# Altium schematic symbol library bead.SchLib: 6 symbols
Pins are listed as number, name and electrical type; pins without a type are passive.

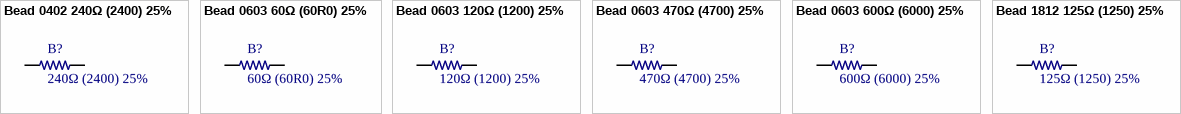
[diagram p0: symbols Bead 0402 240Ω (2400) 25% to Bead 1812 125Ω (1250) 25%]

## Bead 0402 240Ω (2400) 25%
designator B?, comment 240Ω (2400) 25%
贴片磁珠; Package: 0603; Supplier: LC; SuppliersPartNumber: C25803; ComponentLink1Description: 立创商城链接; ComponentLink1URL: https://item.szlcsc.com/266440.html
footprint 0402_L
pins: 1, 2

## Bead 0603 60Ω (60R0) 25%
designator B?, comment 60Ω (60R0) 25%
贴片磁珠; Package: 0603; Supplier: LC; SuppliersPartNumber: C25803; ComponentLink1Description: 立创商城链接; ComponentLink1URL: https://item.szlcsc.com/36300.html
footprint 0603_L
pins: 1, 2

## Bead 0603 120Ω (1200) 25%
designator B?, comment 120Ω (1200) 25%
贴片磁珠; Package: 0603; Supplier: LC; SuppliersPartNumber: C25803; ComponentLink1Description: 立创商城链接; ComponentLink1URL: https://item.szlcsc.com/19227.html
footprint 0603_L
pins: 1, 2

## Bead 0603 470Ω (4700) 25%
designator B?, comment 470Ω (4700) 25%
贴片磁珠; Package: 0603; Supplier: LC; SuppliersPartNumber: C25803; ComponentLink1Description: 立创商城链接; ComponentLink1URL: https://item.szlcsc.com/336340.html
footprint 0603_L
pins: 1, 2

## Bead 0603 600Ω (6000) 25%
designator B?, comment 600Ω (6000) 25%
贴片磁珠; Package: 0603; Supplier: LC; SuppliersPartNumber: C25803; ComponentLink1Description: 立创商城链接; ComponentLink1URL: https://item.szlcsc.com/1354.html
footprint 0603_L
pins: 1, 2

## Bead 1812 125Ω (1250) 25%
designator B?, comment 125Ω (1250) 25%
贴片磁珠; Package: 0603; Supplier: LC; SuppliersPartNumber: C25803; ComponentLink1Description: 立创商城链接; ComponentLink1URL: https://item.szlcsc.com/108534.html
footprint 1812_L
pins: 1, 2